# EAGLE library part NUP4302MR6 (library my_ic)
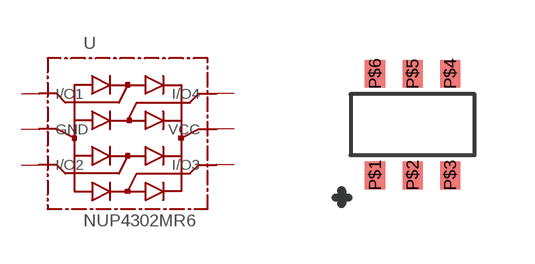
[diagram p5: symbol with the pads of TSOP-6; footprint TSOP-6]

Designator prefix -

## NUP4302MR6  [TSOP-6]
P$1  I/O1  pas
P$2  GND  pwr
P$3  I/O2  pas
P$4  I/O3  pas
P$5  VCC  pwr
P$6  I/O4  pas

## Footprint TSOP-6 (pad centres in mm)
smd 0.508 x 0.699: P$1 -0.94,-1.27; P$2 0,-1.27; P$3 0.94,-1.27; P$4 0.94,1.27; P$5 0,1.27; P$6 -0.94,1.27